# Altium footprint library con-stewart.PCBLIB: 1 footprints
Each footprint in its own frame and in the unit in brackets; x right, y up, seen from the top. Pads: shape width x height; smd on the part's side, far side on the other; paste and mask are expansions set on the pad; w line width, h text height; cw(c..) or ccw(c..) is an arc to the next point about the centre after c.
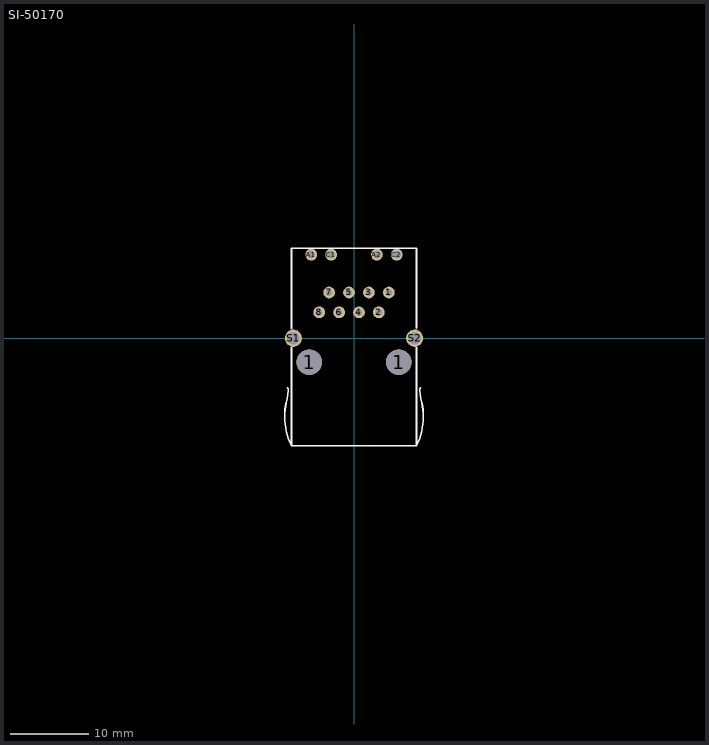
[diagram p0: the footprint, top view; thin cyan lines are the x and y axes]

## SI-50170 [mil]
pads (16):
  round 128 hole 128: 1(-225,-120) 1(225,-120)
  round 59.06 hole 35.43: 1(175,230) 2(125,130) 3(75,230) 4(25,130) 5(-25,230) 6(-75,130) 7(-125,230) 8(-175,130)
  round 59.06 hole 40: A1(-215,420) A2(115,420) C1(-115,420) C2(215,420)
  round 86.61 hole 62.99: S1(-305,0) S2(305,0)
Top Overlay:
  lines w8: -334.65,-249.02 cw(c-345.63,-260.72) -329.72,-262.8 cw(c-961.8,-179.76) -340.55,-322.83 ccw(c-28.71,-394.61) -322.83,-520.67 -313.98,-541.34 ; -313.98,-49.21 -313.98,-541.34 ; -313.98,49.21 -313.98,451.77 313.98,451.77 313.98,53.15 ; 313.98,-49.21 313.98,-541.34 ; 334.65,-249.02 ccw(c345.63,-260.72) 329.72,-262.8 ccw(c961.8,-179.76) 340.55,-322.83 cw(c28.71,-394.61) 322.83,-520.67 313.98,-541.34 ; -313.98,-541.34 313.98,-541.34
Mechanical 16:
  lines w8: -313.98,-49.21 -313.98,49.21 ; 313.98,-49.21 313.98,53.15